# Altium footprint library CJ_Component.PcbLib: 8 footprints
Each footprint in its own frame and in the unit in brackets; x right, y up, seen from the top. Pads: shape width x height; smd on the part's side, far side on the other; paste and mask are expansions set on the pad; w line width, h text height; cw(c..) or ccw(c..) is an arc to the next point about the centre after c.
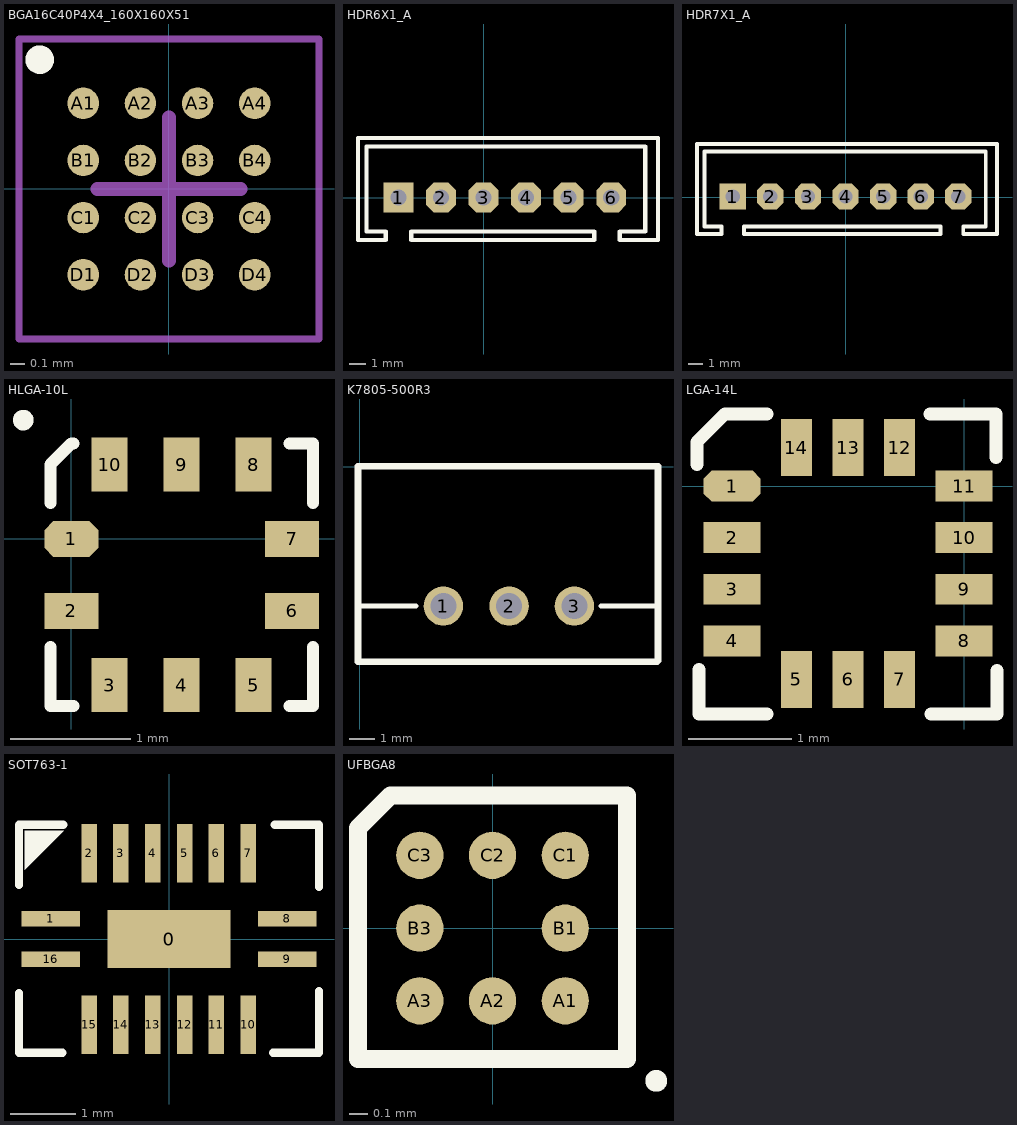
[diagram p0: the footprints below, top view; thin cyan lines are the x and y axes]

## BGA16C40P4X4_160X160X51 [mm] "BGA, 16-Leads, Body 1.60x1.60mmx0.51mm, Pitch 0.40mm"
height 0.52
pads (16):
  round 0.22 smd: A1(-0.6,0.6) A2(-0.2,0.6) A3(0.2,0.6) A4(0.6,0.6) B1(-0.6,0.2) B2(-0.2,0.2) B3(0.2,0.2) B4(0.6,0.2) C1(-0.6,-0.2) C2(-0.2,-0.2) C3(0.2,-0.2) C4(0.6,-0.2) D1(-0.6,-0.6) D2(-0.2,-0.6) D3(0.2,-0.6) D4(0.6,-0.6)
Top Overlay:
  circle w0.1: c-0.905,0.905 r0.05
Mechanical 15:
  lines w0.05: -1.05,-1.05 -1.05,1.05 1.05,1.05 1.05,-1.05 -1.05,-1.05
  lines w0.1: -0.5,0 0.5,0 ; 0,-0.5 0,0.5
3D body: height 0.52, standoff 0.21, extent -0.8,-0.8 0.8,0.8

## HDR6X1_A [mil]
pads (6):
  rect 70x70 hole 38: 1(-200,0)
  oct 70x70 hole 38: 2(-100,0) 3(0,0) 4(100,0) 5(200,0) 6(300,0)
Top Overlay:
  lines w10: -295,-100 -230,-100 -230,-80 -275,-80 -275,120 380,120 380,-80 320,-80 320,-100 410,-100 410,140 -295,140 -295,-100 ; -170,-100 -170,-80 260,-80 260,-100 -170,-100

## HDR7X1_A [mil] "Connector; Header; 4 Position"
height 62.99
pads (7):
  rect 70x70 hole 38: 1(-300,1.57)
  oct 70x70 hole 38: 2(-200,1.57) 3(-100,1.57) 4(0,1.57) 5(100,1.57) 6(200,1.57) 7(300,1.57)
Top Overlay:
  lines w10: -395,-98.43 -330,-98.43 -330,-78.43 -375,-78.43 -375,121.57 372.83,121.57 372.83,-78.43 312.83,-78.43 312.83,-98.43 402.83,-98.43 402.83,141.57 -395,141.57 -395,-98.43 ; -270,-98.43 -270,-78.43 252.83,-78.43 252.83,-98.43 -270,-98.43

## HLGA-10L [mm]
pads (10):
  oct 0.45x0.3 smd: 1(0,0)
  rect 0.45x0.3 smd: 2(0,-0.6) 6(1.84,-0.6) 7(1.84,0)
  rect 0.3x0.45 smd: 3(0.32,-1.22) 4(0.92,-1.22) 5(1.52,-1.22) 8(1.52,0.62) 9(0.92,0.62) 10(0.32,0.62)
Top Overlay:
  circle w0.1: c-0.4,0.99 r0.036
  lines w0.1: -0.175,-0.9 -0.175,-1.395 0.02,-1.395 ; -0.175,0.3 -0.175,0.62 0,0.795 0.02,0.795 ; 1.82,-1.395 2.015,-1.395 2.015,-0.9 ; 1.82,0.795 2.015,0.795 2.015,0.3
3D body: height 0.9, standoff 0.1, extent -0.327,-1.547 2.167,0.947

## K7805-500R3 [mm]
pads (3):
  round 1.524 hole 1: 1(3.242,-5.38) 2(5.782,-5.38) 3(8.307,-5.38)
Top Overlay:
  lines w0.203: -0.045,-5.38 2.175,-5.38 ; 9.338,-5.38 11.525,-5.38 ; 11.513,-7.53 11.54,-7.503
  lines w0.254: 11.513,-7.53 -0.06,-7.53 -0.06,0.02 11.54,0.02 11.54,-7.503
3D body: height 3.81, standoff 0.05, extent -0.061,-7.531 11.541,0.021

## LGA-14L [mm]
pads (14):
  oct 0.55x0.3 smd: 1(-2.25,0)
  rect 0.55x0.3 smd: 2(-2.25,-0.5) 3(-2.25,-1) 4(-2.25,-1.5) 8(0,-1.5) 9(0,-1) 10(0,-0.5) 11(0,0)
  rect 0.3x0.55 smd: 5(-1.625,-1.875) 6(-1.125,-1.875) 7(-0.625,-1.875) 12(-0.625,0.375) 13(-1.125,0.375) 14(-1.625,0.375)
Top Overlay:
  lines w0.127: -2.59,0.21 -2.59,0.43 -2.32,0.7 -1.91,0.7 ; -2.57,-1.78 -2.57,-2.21 -1.91,-2.21 ; -0.33,0.7 0.31,0.7 0.31,0.28 ; -0.32,-2.21 0.32,-2.21 0.32,-1.79
3D body: height 0.96, standoff 0.1, extent -2.627,-2.252 0.377,0.752

## SOT763-1 [mm]
pads (17):
  rect 1.9x0.9 smd: 0(0,0)
  rect 0.9x0.24 smd: 1(-1.82,0.31) 8(1.82,0.31) 9(1.82,-0.31) 16(-1.82,-0.31)
  rect 0.24x0.9 smd: 2(-1.23,1.32) 3(-0.74,1.32) 4(-0.25,1.32) 5(0.24,1.32) 6(0.73,1.32) 7(1.22,1.32) 10(1.22,-1.32) 11(0.73,-1.32) 12(0.24,-1.32) 13(-0.25,-1.32) 14(-0.74,-1.32) 15(-1.23,-1.32)
Top Overlay:
  region: -2.22,1.67 -1.62,1.67 -2.22,1.07
  lines w0.127: -2.31,-0.83 -2.31,-1.47 -2.31,-1.74 -2.31,-1.75 -1.64,-1.75 ; -2.31,0.83 -2.31,1.76 -1.63,1.76 ; 1.6,-1.75 2.05,-1.75 2.31,-1.75 2.31,-1.69 2.31,-0.8 ; 1.63,1.76 2.31,1.76 2.31,0.8
3D body: height 0.51, standoff 0.05, extent -2.09,-1.56 2.09,1.56

## UFBGA8 [mm]
pads (8):
  round 0.26 smd: A1(0.4,-0.4) A2(0,-0.4) A3(-0.4,-0.4) B1(0.4,0) B3(-0.4,0) C1(0.4,0.4) C2(0,0.4) C3(-0.4,0.4)
Top Overlay:
  circle w0.1: c0.9,-0.84 r0.01
  lines w0.1: -0.74,-0.72 0.74,-0.72 0.74,0.73 -0.56,0.73 -0.74,0.55 -0.74,-0.72
3D body: height 0.57, standoff 0.13, extent -0.632,-0.632 0.632,0.632